# Altium footprint library SDM30-24S5.PcbLib: 1 footprints
Each footprint in its own frame and in the unit in brackets; x right, y up, seen from the top. Pads: shape width x height; smd on the part's side, far side on the other; paste and mask are expansions set on the pad; w line width, h text height; cw(c..) or ccw(c..) is an arc to the next point about the centre after c.
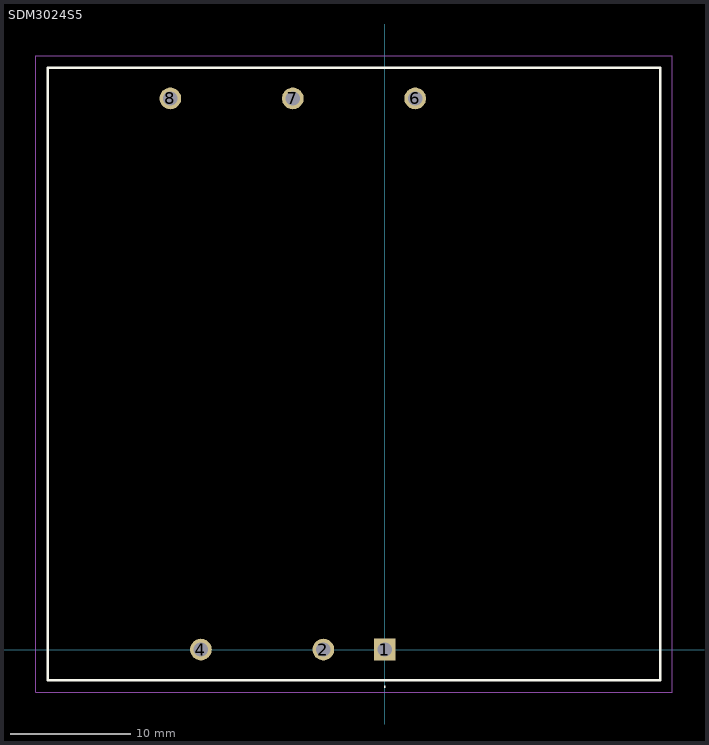
[diagram p0: the footprint, top view; thin cyan lines are the x and y axes]

## SDM3024S5 [mm]
pads (6):
  rect 1.8x1.8 hole 1.2: 1(0,0)
  round 1.8 hole 1.2: 2(-5.08,0) 4(-15.24,0) 6(2.54,45.72) 7(-7.62,45.72) 8(-17.78,45.72)
Top Overlay:
  lines w0.1: 0,-3.15 cw(c0,-3.1) 0,-3.05 cw(c0,-3.1) 0,-3.15
  lines w0.2: -27.94,-2.54 22.86,-2.54 22.86,48.26 -27.94,48.26 -27.94,-2.54
Mechanical 13:
  lines w0.1: -27.94,-2.54 22.86,-2.54 22.86,48.26 -27.94,48.26 -27.94,-2.54
Mechanical 15:
  lines w0.1: -28.94,-3.54 23.86,-3.54 23.86,49.26 -28.94,49.26 -28.94,-3.54
3D body "SDM30.stp": height 16, standoff -4.86, extent -27.94,-2.54 22.86,48.26